# Altium footprint library PcbLib1.PcbLib: 7 footprints
Each footprint in its own frame and in the unit in brackets; x right, y up, seen from the top. Pads: shape width x height; smd on the part's side, far side on the other; paste and mask are expansions set on the pad; w line width, h text height; cw(c..) or ccw(c..) is an arc to the next point about the centre after c.
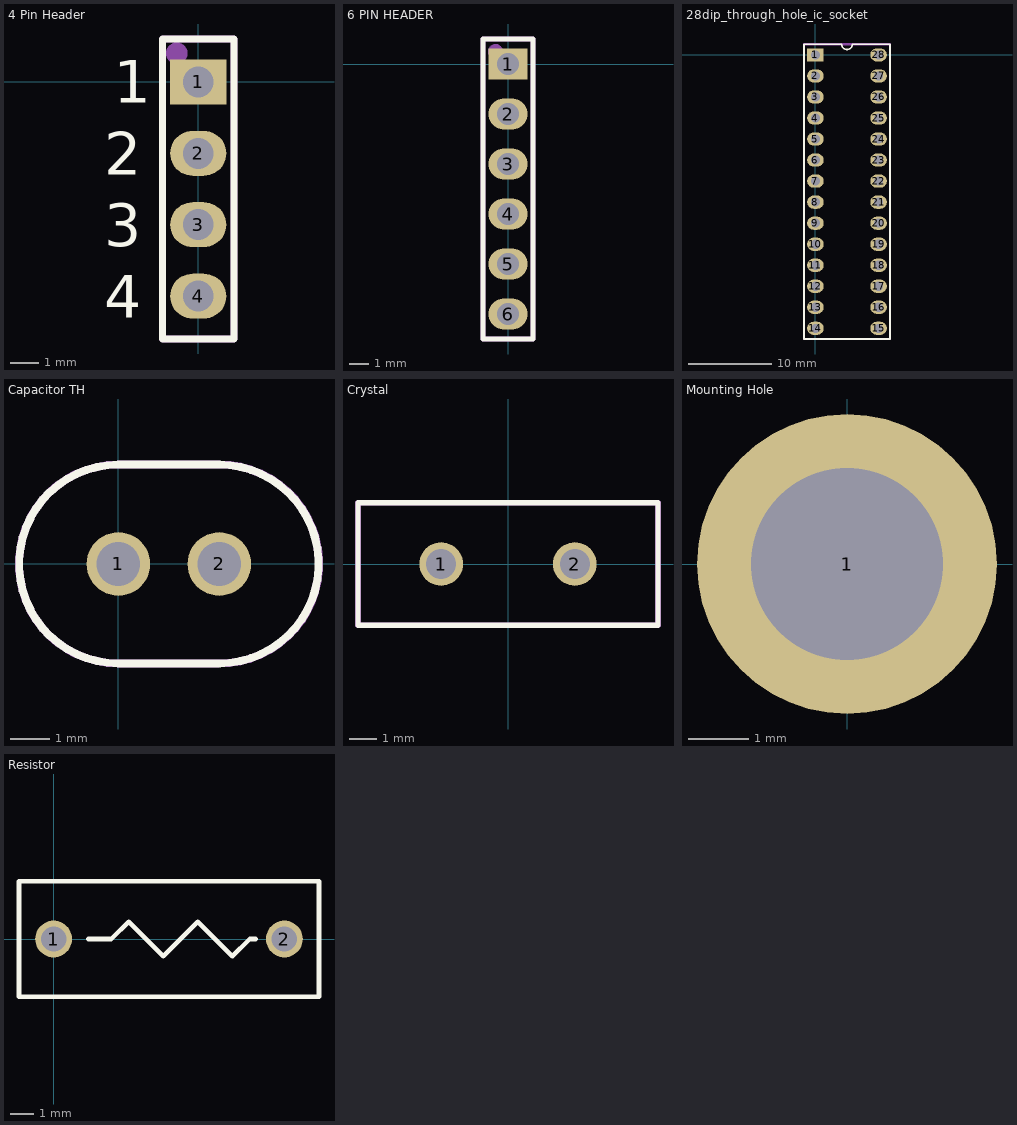
[diagram p0: the footprints below, top view; thin cyan lines are the x and y axes]

## 4 Pin Header [mm]
pads (4):
  rect 2x1.6 hole 1.1: 1(0,0)
  oval 2x1.6 hole 1.1: 2(0,-2.54) 3(0,-5.08) 4(0,-7.62)
Top Overlay:
  lines w0.254: -1.27,-9.144 -1.27,1.524 0,1.524 1.27,1.524 1.27,-9.144 -1.27,-9.144
  text "1" at -2.996,-0.746 h1.52
  text "2" at -3.35,-3.306 h1.52
  text "3" at -3.35,-5.846 h1.52
  text "4" at -3.35,-8.386 h1.52
Mechanical 29:
  circle w0.508: c-0.762,1.016 r0.127
  lines w0.254: -1.27,-9.144 -1.27,1.524 1.27,1.524 1.27,-9.144 -1.27,-9.144
  text ".Designator" at 0.508,-7.366 h1.52
3D body "m20-7820446_asm.stp": height 8.51, standoff -2.99, extent -1.25,-9.036 1.25,1.524

## 6 PIN HEADER [mm]
pads (6):
  rect 2x1.6 hole 1.1: 1(0,0)
  oval 2x1.6 hole 1.1: 2(0,-2.54) 3(0,-5.08) 4(0,-7.62) 5(0,-10.16) 6(0,-12.7)
Top Overlay:
  lines w0.254: -1.27,-13.97 -1.27,1.27 0,1.27 1.27,1.27 1.27,-13.97 -1.27,-13.97
Mechanical 29:
  circle w0.508: c-0.635,0.635 r0.127
  lines w0.254: -1.27,-13.97 1.27,-13.97 1.27,1.27 -1.27,1.27 -1.27,-13.97
  text ".Designator" at 0.508,-11.938 h1.52
3D body "929850-01-06-RB.stp": height 8.26, standoff -3.43, extent -1.27,-13.97 1.27,1.27

## 28dip_through_hole_ic_socket [mm]
pads (28):
  rect 2x1.6 hole 1.1: 1(0,0)
  oval 2x1.6 hole 1.1: 2(0,-2.54) 3(0,-5.08) 4(0,-7.62) 5(0,-10.16) 6(0,-12.7) 7(0,-15.24) 8(0,-17.78) 9(0,-20.32) 10(0,-22.86) 11(0,-25.4) 12(0,-27.94) 13(0,-30.48) 14(0,-33.02) 15(7.62,-33.02) 16(7.62,-30.48) 17(7.62,-27.94) 18(7.62,-25.4) 19(7.62,-22.86) 20(7.62,-20.32) 21(7.62,-17.78) 22(7.62,-15.24) 23(7.62,-12.7) 24(7.62,-10.16) 25(7.62,-7.62) 26(7.62,-5.08) 27(7.62,-2.54) 28(7.62,0)
Top Overlay:
  lines w0.2: -1.39,-34.31 9.01,-34.31 9.01,1.29 4.445,1.29 cw(c3.81,1.29) 3.175,1.29 -1.39,1.29 -1.39,-34.31
Mechanical 29:
  circle w0.5: c0,0 r0.2
  lines w0.254: -1.39,-34.31 9.01,-34.31 9.01,1.29 -1.39,1.29 -1.39,-34.31
  text ".Designator" at 4.91,-23.51 h3
3D body "User Library-28pin 0_3inch 2_54mm IC DIP Gold Socket.step": height 5.15, standoff -2.85, extent -1.27,-34.27 8.89,1.29

## Capacitor TH [mm]
pads (2):
  round 1.6 hole 1.1: 1(0,0) 2(2.54,0)
Top Overlay:
  lines w0.2: 0,-2.5 cw(c0,0) 0,2.5 2.54,2.5 cw(c2.54,0) 2.54,-2.5 0,-2.5
Mechanical 29:
  lines w0.203: 0,-2.502 cw(c0,0) 0,2.502 2.524,2.502 ; 0.001,-2.503 2.5,-2.503 ccw(c2.547,0) 2.525,2.503
  text ".Designator" at 0.777,-1.209 h1.02
3D body "10pF Ceramic Disc 2.STEP": height 6.92, standoff -7.11, extent -1.075,-1.275 3.625,1.225

## Crystal [mm]
pads (2):
  round 1.6 hole 1.1: 1(-2.45,0) 2(2.45,0)
Top Overlay:
  lines w0.2: -5.5,-2.25 -5.5,2.25 5.5,2.25 5.5,-2.25 -5.5,-2.25
Mechanical 29:
  lines w0.203: -5.5,-2.25 -5.5,2.25 5.5,2.25 5.5,-2.25 -5.5,-2.25
  text ".Designator" at -1.246,0.012 h1.52
3D body "830058383B.stp": height 4.2, standoff -5, extent -5.51,-2.35 5.39,2.35

## Mounting Hole [mm]
pads (1):
  round 5 hole 3.2: 1(0,0)

## Resistor [mm]
pads (2):
  round 1.6 hole 1.1: 1(0,0) 2(10,0)
Top Overlay:
  lines w0.2: -1.5,-2.5 -1.5,2.5 11.5,2.5 11.5,-2.5 -1.5,-2.5
  lines w0.203: 1.5,0 2.5,0 3.25,0.75 ; 8.75,0 8.5,0 7.75,-0.75 6.25,0.75 4.75,-0.75 3.25,0.75 ; 3.25,0.75 3.25,0.75